# EAGLE library part PULSE_T1094NL (library laforge)
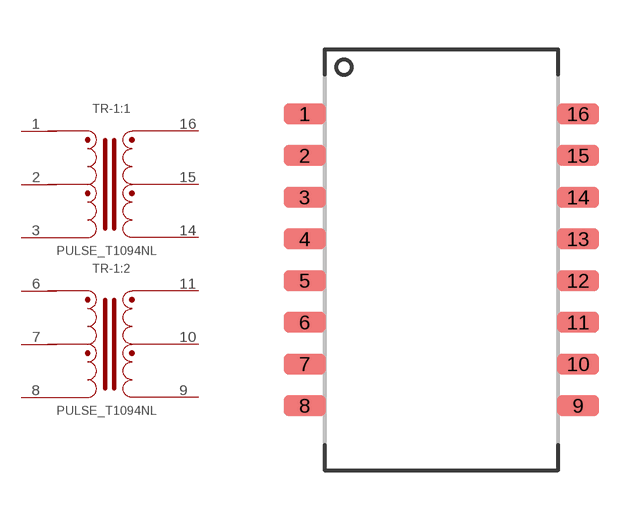
[diagram p45: symbol with the pads of PULSE_BH; footprint PULSE_BH]

Designator prefix TR; gates -1:1=E1_MAGNETICS -1:2=E1_MAGNETICS

## PULSE_T1094NL  [PULSE_BH]
1  -1:1:P$4
2  -1:1:P$5
3  -1:1:P$6
6  -1:2:P$4
7  -1:2:P$5
8  -1:2:P$6
9  -1:2:P$3
10  -1:2:P$2
11  -1:2:P$1
14  -1:1:P$3
15  -1:1:P$2
16  -1:1:P$1

## Footprint PULSE_BH (pad centres in mm)
smd 1.27 x 0.635: 1 -4.23,4.25; 2 -4.23,2.98; 3 -4.23,1.71; 4 -4.23,0.44; 5 -4.23,-0.83; 6 -4.23,-2.1; 7 -4.23,-3.37; 8 -4.23,-4.64; 9 4.1,-4.64; 10 4.1,-3.37; 11 4.1,-2.1; 12 4.1,-0.83; 13 4.1,0.44; 14 4.1,1.71; 15 4.1,2.98; 16 4.1,4.25